# EAGLE library part CARTRIDGE_PORT_TI99 (library ti994a)
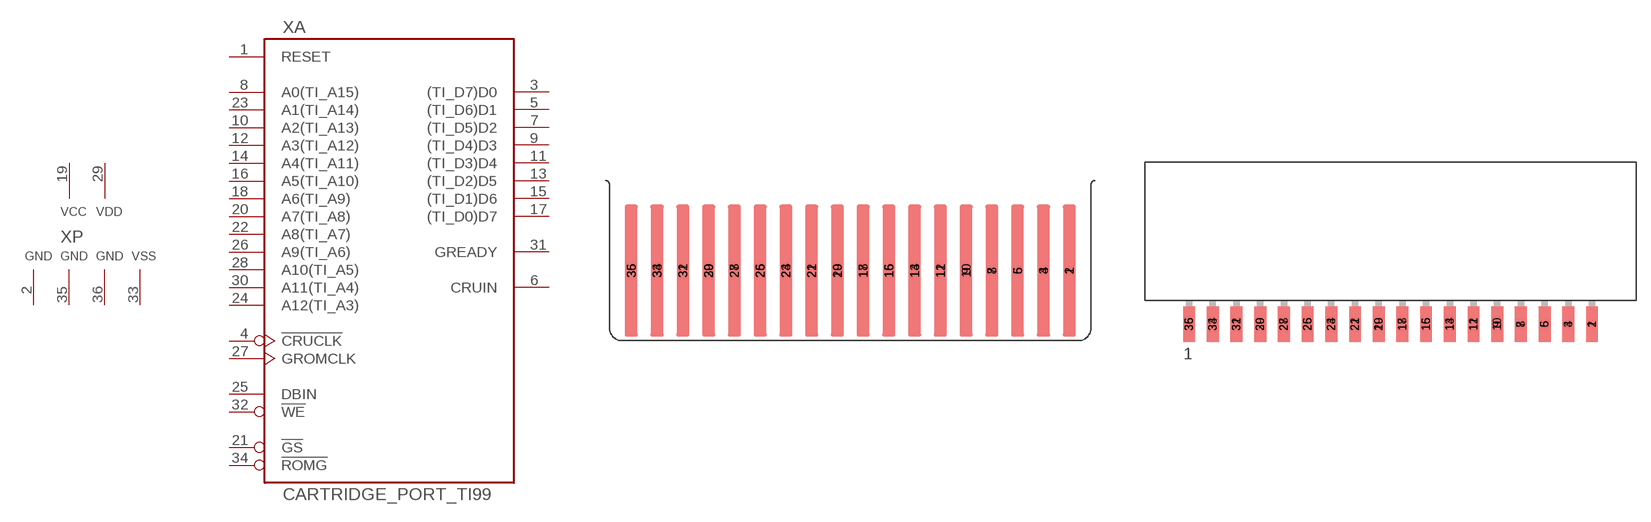
[diagram p0: symbol with the pads of MA100_18-2; footprints MA100_18-2, FE100_18-2_EDGE]

Designator prefix X; gates A=TI994/A_CART P=PWR_VCC_VDD_VSS_3GND

## CARTRIDGE_PORT_TI99  [MA100_18-2]
1  A:RESET  pas
2  P:GND  pwr
3  A:(TI_D7)D0
4  A:!CRUCLK  out
5  A:(TI_D6)D1
6  A:CRUIN  in
7  A:(TI_D5)D2
8  A:A0(TI_A15)  out
9  A:(TI_D4)D3
10  A:A2(TI_A13)  out
11  A:(TI_D3)D4
12  A:A3(TI_A12)  out
13  A:(TI_D2)D5
14  A:A4(TI_A11)  out
15  A:(TI_D1)D6
16  A:A5(TI_A10)  out
17  A:(TI_D0)D7
18  A:A6(TI_A9)  out
19  P:VCC  pwr
20  A:A7(TI_A8)  out
21  A:!GS  out
22  A:A8(TI_A7)  out
23  A:A1(TI_A14)  out
24  A:A12(TI_A3)  out
25  A:DBIN  out
26  A:A9(TI_A6)  out
27  A:GROMCLK  out
28  A:A10(TI_A5)  out
29  P:VDD  pwr
30  A:A11(TI_A4)  out
31  A:GREADY  in
32  A:!WE  out
33  P:VSS  pwr
34  A:!ROMG  pas
35  P:GND  pwr
36  P:GND  pwr

## CARTRIDGE_PORT_TI99E  [FE100_18-2_EDGE]
Pads as for MA100_18-2

## CARTRIDGE_PORT_TI99P  [FE100_18-2]
Pads as for MA100_18-2

## Footprint MA100_18-2 (pad centres in mm)
smd 1.27 x 13 bottom: 1 21.59,0; 3 19.05,0; 5 16.51,0; 7 13.97,0; 9 11.43,0; 11 8.89,0; 13 6.35,0; 15 3.81,0; 17 1.27,0; 19 -1.27,0; 21 -3.81,0; 23 -6.35,0; 25 -8.89,0; 27 -11.43,0; 29 -13.97,0; 31 -16.51,0; 33 -19.05,0; 35 -21.59,0
smd 1.27 x 13: 2 21.59,0; 4 19.05,0; 6 16.51,0; 8 13.97,0; 10 11.43,0; 12 8.89,0; 14 6.35,0; 16 3.81,0; 18 1.27,0; 20 -1.27,0; 22 -3.81,0; 24 -6.35,0; 26 -8.89,0; 28 -11.43,0; 30 -13.97,0; 32 -16.51,0; 34 -19.05,0; 36 -21.59,0

## Footprint FE100_18-2_EDGE (pad centres in mm)
smd 1.27 x 3.81 bottom: 1 21.59,0; 3 19.05,0; 5 16.51,0; 7 13.97,0; 9 11.43,0; 11 8.89,0; 13 6.35,0; 15 3.81,0; 17 1.27,0; 19 -1.27,0; 21 -3.81,0; 23 -6.35,0; 25 -8.89,0; 27 -11.43,0; 29 -13.97,0; 31 -16.51,0; 33 -19.05,0; 35 -21.59,0
smd 1.27 x 3.81: 2 21.59,0; 4 19.05,0; 6 16.51,0; 8 13.97,0; 10 11.43,0; 12 8.89,0; 14 6.35,0; 16 3.81,0; 18 1.27,0; 20 -1.27,0; 22 -3.81,0; 24 -6.35,0; 26 -8.89,0; 28 -11.43,0; 30 -13.97,0; 32 -16.51,0; 34 -19.05,0; 36 -21.59,0

## Footprint FE100_18-2 (pad centres in mm)
drill 1 octagon: 1 -21.59,-2.54; 3 -19.05,-2.54; 4 -19.05,2.54; 5 -16.51,-2.54; 6 -16.51,2.54; 7 -13.97,-2.54; 8 -13.97,2.54; 9 -11.43,-2.54; 10 -11.43,2.54; 11 -8.89,-2.54; 12 -8.89,2.54; 13 -6.35,-2.54; 14 -6.35,2.54; 15 -3.81,-2.54; 16 -3.81,2.54; 17 -1.27,-2.54; 18 -1.27,2.54; 19 1.27,-2.54; 20 1.27,2.54; 21 3.81,-2.54; 22 3.81,2.54; 23 6.35,-2.54; 24 6.35,2.54; 25 8.89,-2.54; 26 8.89,2.54; 27 11.43,-2.54; 28 11.43,2.54; 29 13.97,-2.54; 30 13.97,2.54; 31 16.51,-2.54; 32 16.51,2.54; 33 19.05,-2.54; 34 19.05,2.54; 35 21.59,-2.54; 36 21.59,2.54
drill 1: 2 -21.59,2.54